# EAGLE library part AD9833 (library LARS_409_MC3)
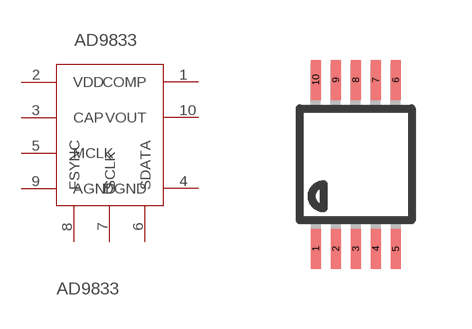
[diagram p25: symbol with the pads of MSOP10; footprint MSOP10]

Designator prefix AD9833

## AD9833  [MSOP10]
1  COMP
2  VDD
3  CAP
4  DGND
5  MCLK
6  SDATA
7  SCLK
8  FSYNC
9  AGND
10  VOUT

## Footprint MSOP10 (pad centres in mm)
10-Lead Mini Small Outline Package [MSOP] (RM-10) Source: http://www.analog.com/UploadedFiles/Data_Sheets/35641221898805SSM2167_b.pdf COMPLIANT TO JEDEC STANDARDS MO-187BA
smd 0.25 x 1: 1 -1,-2.113; 2 -0.5,-2.113; 3 0,-2.113; 4 0.5,-2.113; 5 1,-2.113; 6 1,2.113; 7 0.5,2.113; 8 0,2.113; 9 -0.5,2.113; 10 -1,2.113